# Altium integrated library MISC - PADS.IntLib: 1 symbol
Pins are listed as number, name and electrical type; pins without a type are passive.

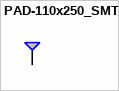
[diagram p0: symbol PAD-110x250_SMT]

## PAD-110x250_SMT
designator PAD, comment PAD, 110milx250mil  (value not drawn)  (no BOM)
footprint PAD-110x250 (SMT Pad, Rectangular, 110 mil x 250 mil)
pins: 1